# Altium schematic symbol library expansion_library.SchLib: 3 symbols
Pins are listed as number, name and electrical type; pins without a type are passive.

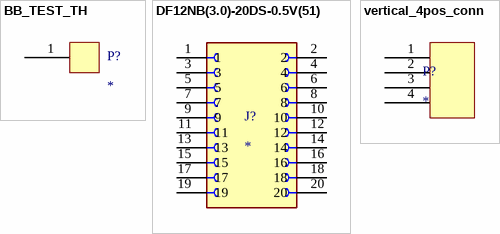
[diagram p0: symbols BB_TEST_TH to vertical_4pos_conn]

## BB_TEST_TH
designator P?
footprint BB_WIRE_TEST_TH
pins: 1

## DF12NB(3.0)-20DS-0.5V(51)
designator J?
MP: DF12NB(3.0)-20DS-0.5V(51); Value: *; Availability: Unavailable; Package: None; Price: None
footprint HRS_DF12NB(3.0)-20DS-0.5V(51)
pins: 1, 2, 3, 4, 5, 6, 7, 8, 9, 10, 11, 12, 13, 14, 15, 16, 17, 18, 19, 20

## vertical_4pos_conn
designator P?
footprint vertical_4pos_conn
footprint vertical_4pos_conn _s
footprint 4pos_conn_tof
footprint vertical_4pos_conn _s_square
pins: 1, 2, 3, 4